# Altium footprint library DFN16DHD5X4.PcbLib: 1 footprints
Each footprint in its own frame and in the unit in brackets; x right, y up, seen from the top. Pads: shape width x height; smd on the part's side, far side on the other; paste and mask are expansions set on the pad; w line width, h text height; cw(c..) or ccw(c..) is an arc to the next point about the centre after c.
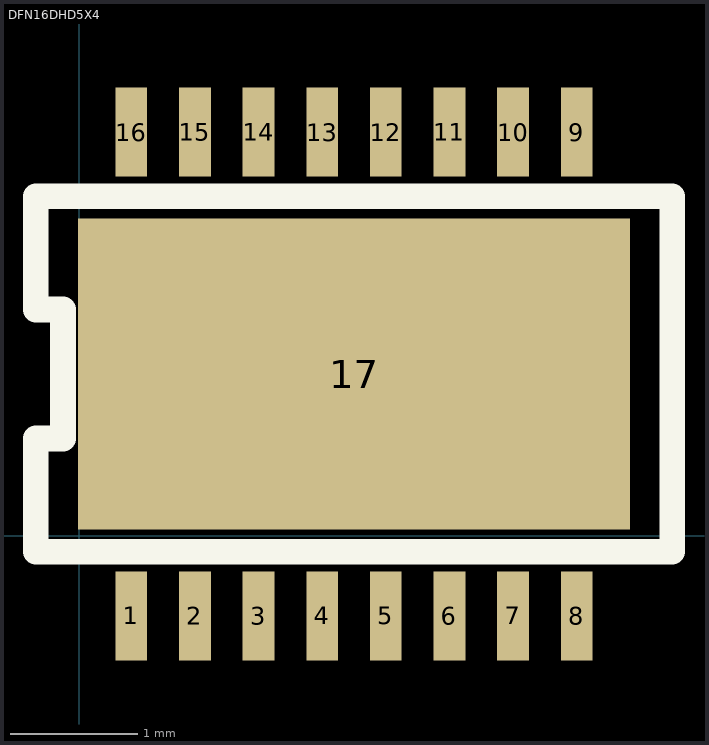
[diagram p0: the footprint, top view; thin cyan lines are the x and y axes]

## DFN16DHD5X4 [mm]
height 0.762
pads (17):
  rect 0.25x0.7 smd: 1(0.409,-0.63) 2(0.909,-0.63) 3(1.409,-0.63) 4(1.909,-0.63) 5(2.409,-0.63) 6(2.909,-0.63) 7(3.409,-0.63) 8(3.909,-0.63) 9(3.909,3.17) 10(3.409,3.17) 11(2.909,3.17) 12(2.409,3.17) 13(1.909,3.17) 14(1.409,3.17) 15(0.909,3.17) 16(0.409,3.17)
  rect 4.34x2.44 smd: 17(2.159,1.27)
Top Overlay:
  lines w0.203: -0.341,-0.127 4.659,-0.127 4.659,2.667 -0.341,2.667 -0.341,1.778 -0.127,1.778 -0.127,0.762 -0.341,0.762 -0.341,-0.127
3D body: height 0.85, standoff 0, extent -0.391,-0.375 4.709,2.743